# Altium footprint library RFM.PcbLib: 1 footprints
Each footprint in its own frame and in the unit in brackets; x right, y up, seen from the top. Pads: shape width x height; smd on the part's side, far side on the other; paste and mask are expansions set on the pad; w line width, h text height; cw(c..) or ccw(c..) is an arc to the next point about the centre after c.
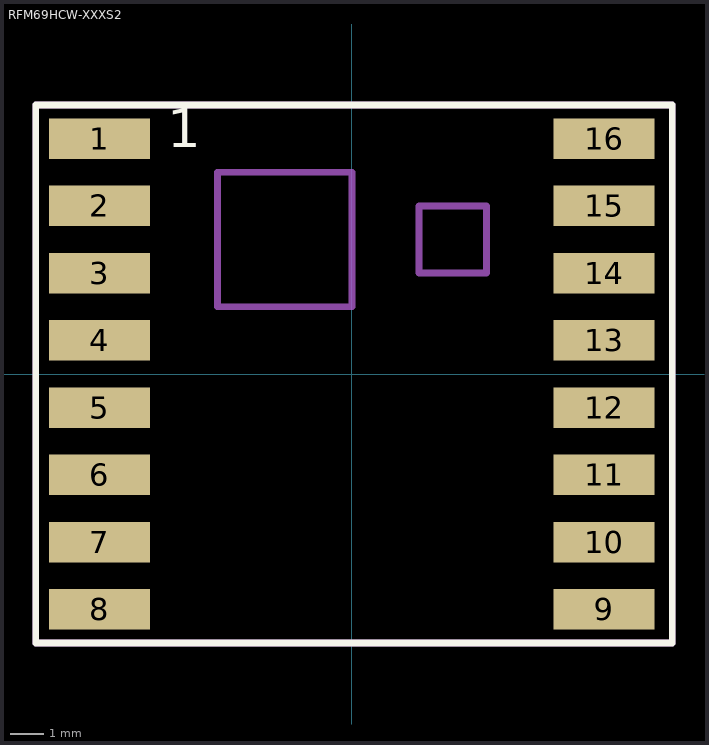
[diagram p0: the footprint, top view; thin cyan lines are the x and y axes]

## RFM69HCW-XXXS2 [mm] "RFM69HCW-XXXS2"
pads (16):
  rect 3x1.2 smd: 1(-7.5,7) 2(-7.5,5) 3(-7.5,3) 4(-7.5,1) 5(-7.5,-1) 6(-7.5,-3) 7(-7.5,-5) 8(-7.5,-7) 9(7.5,-7) 10(7.5,-5) 11(7.5,-3) 12(7.5,-1) 13(7.5,1) 14(7.5,3) 15(7.5,5) 16(7.5,7)
Top Overlay:
  lines w0.203: -9.398,-8 -9.398,8 9.525,8 9.525,-8 -9.398,-8
  text "1" at -5.485,6.35 h1.97
Mechanical 13:
  lines w0.203: -9.398,-8 9.525,-8 9.525,8 -9.398,8 -9.398,-8 ; -4,2 -4,6 0,6 0,2 -4,2 ; 2,3 2,5 4,5 4,3 2,3
  text "1" at -5.485,6.35 h1.97
3D body "RFM96W.STEP": height 2.29, standoff 0.06, extent -8.002,-7.95 8,7.95